# Altium schematic symbol library Diode_brige.SchLib: 1 symbol
Pins are listed as number, name and electrical type; pins without a type are passive.

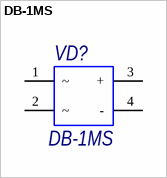
[diagram p0: symbol DB-1MS]

## DB-1MS
designator VD?
Value: DB-1MS; Name: *; Body: *
footprint db-1ms
pins: 1 ~, 2 ~, 3 +, 4 -